# Altium footprint library 662308235922.PcbLib: 1 footprints
Each footprint in its own frame and in the unit in brackets; x right, y up, seen from the top. Pads: shape width x height; smd on the part's side, far side on the other; paste and mask are expansions set on the pad; w line width, h text height; cw(c..) or ccw(c..) is an arc to the next point about the centre after c.
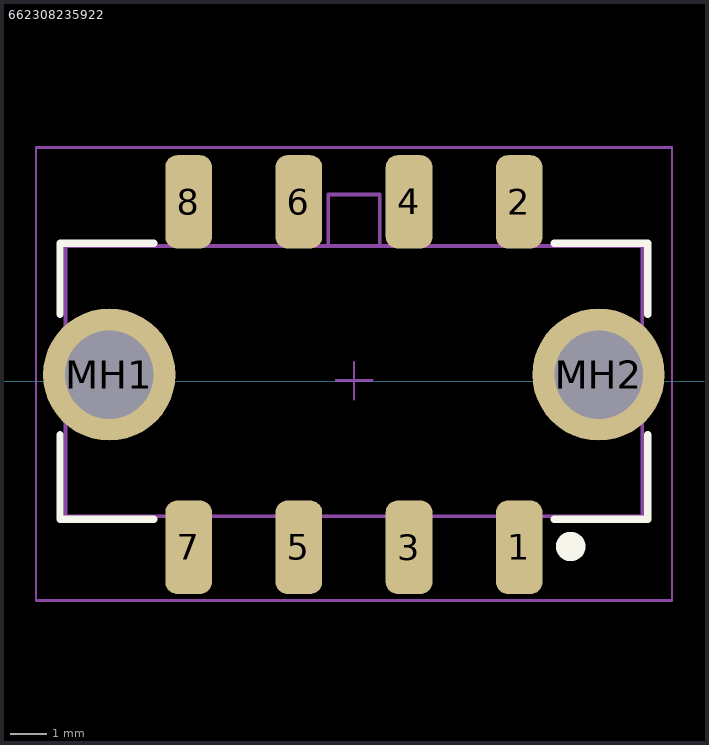
[diagram p0: the footprint, top view; thin cyan lines are the x and y axes]

## 662308235922 [mm]
pads (10):
  rrect50% 1.27x2.54 smd: 1(-14.248,-4.52) 2(-14.248,4.88) 3(-17.248,-4.52) 4(-17.248,4.88) 5(-20.248,-4.52) 6(-20.248,4.88) 7(-23.248,-4.52) 8(-23.248,4.88)
  round 3.6 hole 2.41: MH1(-25.408,0.18) MH2(-12.088,0.18)
Top Overlay:
  circle w0.4: c-12.848,-4.5 r0.2
  lines w0.2: -26.748,-1.455 -26.748,-3.755 -24.198,-3.755 ; -26.748,1.815 -26.748,3.755 -24.198,3.755 ; -13.298,-3.755 -10.748,-3.755 -10.748,-1.455 ; -13.298,3.755 -10.748,3.755 -10.748,1.815
Top Assembly:
  lines w0.05: -19.245,0.03 -18.245,0.03 ; -18.745,-0.47 -18.745,0.53 ; -27.405,-5.96 -10.085,-5.96 -10.085,6.38 -27.405,6.38 -27.405,-5.96
Top 3D Body:
  lines w0.1: -19.448,3.68 -19.448,5.08 -18.048,5.08 -18.048,3.68 ; -26.598,-3.68 -26.598,3.68 -10.898,3.68 -10.898,-3.68 -26.598,-3.68
Top Courtyard:
  lines w0.05: -19.248,0 -18.248,0 ; -18.748,-0.5 -18.748,0.5 ; -27.408,-5.99 -10.088,-5.99 -10.088,6.35 -27.408,6.35 -27.408,-5.99
3D body "662308235922.stp": height 11.42, standoff -3.08, extent -26.598,-5.45 -10.898,5.95